# EAGLE library part M83513/10-A01NP (library M83513_10-A01NP)
MIL-DTL-83513 PCB Mounted Connector | Plug | 9 Positions | Shell Finish - Cadmium | Male | PCB Solder Pins | 0.109in (2.77 mm) Pin Length
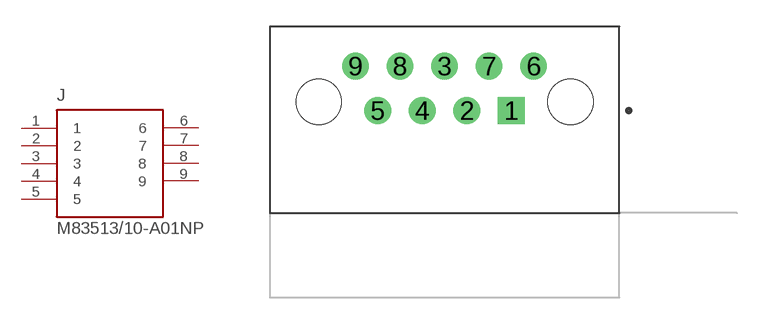
[diagram p0: symbol with the pads of BEL_M83513/10-A01NP; footprint BEL_M83513/10-A01NP]

Designator prefix J

## M83513/10-A01NP (Availability: Unavailable; Description: MIL-DTL-83513 PCB Mounted Connector | Plug | 9 Positions | Shell Finish - Nickel | Male | PCB Solder Pins | 0.109 (2.77 mm) Pin Length | Jackpost Attached; MF: Cinch Connectivity Solutions; MP: M83513/10-A01NP; Package: None; Price: None)  [BEL_M83513/10-A01NP]
1  1  pas
2  2  pas
3  3  pas
4  4  pas
5  5  pas
6  6  pas
7  7  pas
8  8  pas
9  9  pas

## Footprint BEL_M83513/10-A01NP (pad centres in mm)
drill 1.02 square: 1 3.81,-0.508
drill 1.02: 2 1.27,-0.508; 3 0,2.032; 4 -1.27,-0.508; 5 -3.81,-0.508; 6 5.08,2.032; 7 2.54,2.032; 8 -2.54,2.032; 9 -5.08,2.032
hole 2.57 at -7.188,0
hole 2.57 at 7.188,0